# Altium schematic symbol library CAP_0.1ufar_805pkg.SchLib: 1 symbol
Pins are listed as number, name and electrical type; pins without a type are passive.

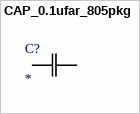
[diagram p0: symbol CAP_0.1ufar_805pkg]

## CAP_0.1ufar_805pkg
designator C?
No Description Available; Mfr_Name: Yageo
footprint CC0805N_YAG
pins: 1, 2